# Altium footprint library STANDARD_PARTS.PcbLib: 51 footprints (part 2 of 4)
Each footprint in its own frame and in the unit in brackets; x right, y up, seen from the top. Pads: shape width x height; smd on the part's side, far side on the other; paste and mask are expansions set on the pad; w line width, h text height; cw(c..) or ccw(c..) is an arc to the next point about the centre after c.
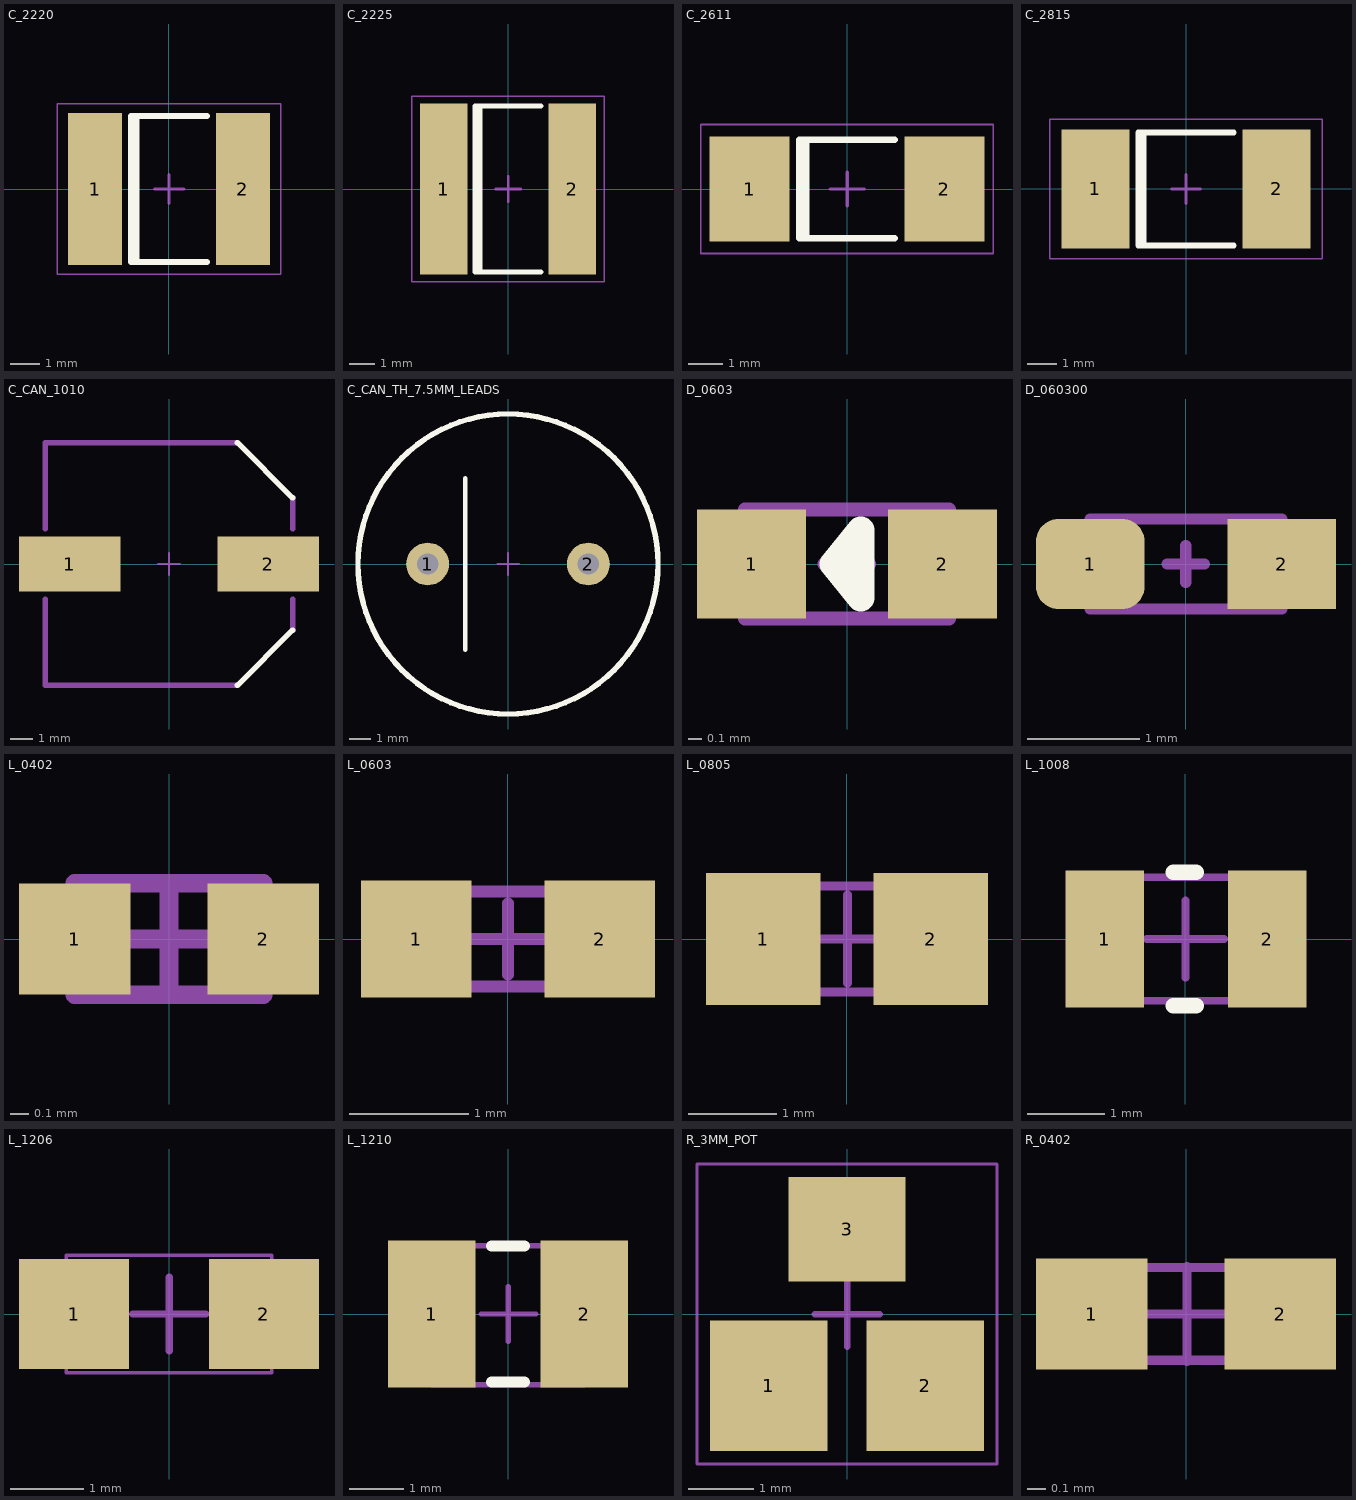
[diagram p1: the footprints below, top view; thin cyan lines are the x and y axes]

## C_2220 [mm] "Chip Capacitor; Body 5.7 x 5.0 mm (LxW typ)"
height 1.8
pads (2):
  rect 1.85x5.2 smd: 1(-2.525,0) 2(2.525,0)
Top Overlay:
  lines w0.2: -1.11,-2.5 -1.11,2.5 ; 1.3,-2.5 -1.3,-2.5 -1.3,2.5 1.3,2.5
Mechanical 3:
  text ".Designator" at -3.81,3.302 h0.5
Mechanical 15:
  lines w0.05: -3.81,-2.921 3.81,-2.921 3.81,2.921 -3.81,2.921 -3.81,-2.921
  lines w0.1: -0.495,0 0.505,0 ; 0.005,-0.5 0.005,0.5
3D body: height 1, standoff 0, extent 1.905,-2.413 3.175,2.413
3D body: height 1, standoff 0, extent -1.905,-2.413 1.905,2.413
3D body: height 1, standoff 0, extent -3.175,-2.413 -1.905,2.413

## C_2225 [mm] "Chip Capacitor; Body 5.6 x 6.4 mm (LxW typ)"
height 2
pads (2):
  rect 1.9x6.8 smd: 1(-2.55,0) 2(2.55,0)
Top Overlay:
  lines w0.2: -1.11,-3.3 -1.11,3.3 ; 1.3,-3.3 -1.3,-3.3 -1.3,3.3 1.3,3.3
Mechanical 3:
  text ".Designator" at -3.81,4.064 h0.5
Mechanical 15:
  lines w0.05: -3.81,-3.683 3.81,-3.683 3.81,3.683 -3.81,3.683 -3.81,-3.683
  lines w0.1: -0.495,0 0.505,0 ; 0.005,-0.5 0.005,0.5
3D body: height 1, standoff 0, extent 1.905,-3.048 3.175,3.048
3D body: height 1, standoff 0, extent -1.905,-3.048 1.905,3.048
3D body: height 1, standoff 0, extent -3.175,-3.048 -1.905,3.048

## C_2611 [mm] "Chip Capacitor; Body 6.73 x 2.79 mm (LxW typ)"
height 3.18
pads (2):
  rect 2.35x3.1 smd: 1(-2.875,0) 2(2.875,0)
Top Overlay:
  lines w0.2: -1.21,-1.45 -1.21,1.45 ; 1.4,-1.45 -1.4,-1.45 -1.4,1.45 1.4,1.45
Mechanical 3:
  text ".Designator" at -4.318,2.286 h0.5
Mechanical 15:
  lines w0.05: -4.318,-1.905 -4.318,1.905 4.318,1.905 4.318,-1.905 -4.318,-1.905
  lines w0.1: -0.495,0 0.505,0 ; 0.005,-0.5 0.005,0.5
3D body: height 1, standoff 0, extent -3.556,-1.397 -1.905,1.397
3D body: height 1, standoff 0, extent -1.905,-1.397 1.905,1.397
3D body: height 1, standoff 0, extent 1.905,-1.397 3.556,1.397

## C_2815 [mm] "Chip Capacitor; Body 7.24 x 3.81 mm (LxW typ)"
height 3.18
pads (2):
  rect 2.35x4.1 smd: 1(-3.125,0) 2(3.125,0)
Top Overlay:
  lines w0.2: -1.46,-1.95 -1.46,1.95 ; 1.65,-1.95 -1.65,-1.95 -1.65,1.95 1.65,1.95
Mechanical 3:
  text ".Designator" at -4.699,2.794 h0.5
Mechanical 15:
  lines w0.05: -4.699,-2.413 -4.699,2.413 4.699,2.413 4.699,-2.413 -4.699,-2.413
  lines w0.1: -0.495,0 0.505,0 ; 0.005,-0.5 0.005,0.5
3D body: height 1, standoff 0, extent -4,-1.778 -2.286,1.778
3D body: height 1, standoff 0, extent -2.286,-1.778 2.286,1.778
3D body: height 1, standoff 0, extent 2.286,-1.778 3.951,1.778

## C_CAN_1010 [mm] "SMD-ECAP-10x10"
height 12
pads (2):
  rect 4.6x2.5 smd: 1(-4.5,0) 2(4.5,0)
Top Overlay:
  lines w0.25: 3.1,-5.5 5.6,-3 ; 3.1,5.5 5.6,3
Mechanical 3:
  lines w0.25: -5.6,-1.6 -5.6,-5.5 3.1,-5.5 ; -5.6,1.6 -5.6,5.5 3.1,5.5 ; 5.6,-3 5.6,-1.6 ; 5.6,1.6 5.6,3
  text ".Designator" at -4.599,2.794 h0.5
Mechanical 15:
  lines w0.1: -0.495,0 0.505,0 ; 0.005,-0.5 0.005,0.5
3D body "User Library-cap_10x10x10-1.STEP": height 10.3, standoff -0.2, extent -5.899,-5.25 5.901,5.25

## C_CAN_TH_7.5MM_LEADS [mm]
height 12
pads (2):
  round 2 hole 1: 1(-3.75,0) 2(3.75,0)
Top Overlay:
  circle w0.254: c0,0 r7
  lines w0.2: -2,-4 -2,4
Mechanical 3:
  text ".Designator" at -4.599,2.794 h0.5
Mechanical 15:
  lines w0.1: -0.495,0 0.505,0 ; 0.005,-0.5 0.005,0.5
3D body "ELCO-D16P7.5H25LD0.8.stp": height 25.02, standoff -3.6, extent -8,-8 8,8

## D_0603 [mm] "Chip Diode; Body 1.6 x 0.8 mm (LxW typ)"
height 0.85
pads (2):
  rect 0.8x0.8 smd: 1(-0.7,0) 2(0.7,0)
Top Overlay:
  lines w0.2: -0.1,0 0.1,0.25 0.1,-0.25 -0.1,0
Mechanical 3:
  text ".Designator" at -1.05,0.6 h0.5
Mechanical 15:
  lines w0.1: -0.167,0 0.163,0 ; -0.002,-0.165 -0.002,0.165 ; -0.75,-0.4 0.75,-0.4 0.75,0.4 -0.75,0.4 -0.75,-0.4
3D body "0603 LED v7.step": height 0.35, standoff 0, extent -0.8,-0.4 0.8,0.4

## D_060300 [mm] "Chip Diode; Body 1.6 x 0.8 mm (LxW typ)"
height 0.85
pads (2):
  rrect50% 0.965x0.8 smd: 1(-0.85,0)
  rect 0.965x0.8 smd: 2(0.85,0)
Mechanical 3:
  text ".Designator" at -1.5,0.65 h0.5
Mechanical 15:
  lines w0.1: -0.167,0 0.163,0 ; -0.002,-0.165 -0.002,0.165 ; -0.85,-0.4 0.85,-0.4 0.85,0.4 -0.85,0.4 -0.85,-0.4
3D body: height 0.3, standoff 0, extent -1.016,-0.381 -0.635,0.381
3D body: height 0.3, standoff 0, extent -0.635,-0.381 0.762,0.381
3D body: height 0.3, standoff 0, extent 0.635,-0.381 1.016,0.381

## L_0402 [mm] "Chip Inductor, Body 1.1 x 0.5 mm (LxW typ)"
height 0.4
pads (2):
  rect 0.6x0.6 smd: 1(-0.508,0) 2(0.508,0)
Mechanical 3:
  text ".designator" at -0.7,0.5 h0.5
Mechanical 15:
  lines w0.1: -0.381,0 0.381,0 ; 0,-0.3 0,0.3 ; -0.508,-0.3 0.508,-0.3 0.508,0.3 -0.508,0.3 -0.508,-0.3
3D body "L_0402.stp": height 0.5, standoff 0, extent -0.5,-0.275 0.5,0.275

## L_0603 [mm]
pads (2):
  rect 0.93x0.98 smd: 1(-0.77,0) 2(0.77,0)
Mechanical 3:
  text ".designator" at -1.2,0.7 h0.5
Mechanical 15:
  lines w0.1: -0.381,0 0.381,0 ; 0,-0.3 0,0.3 ; -0.77,-0.4 -0.77,0.4 0.77,0.4 0.77,-0.4 -0.77,-0.4
3D body "L0603.STEP": height 0.46, standoff -0.01, extent -0.825,-0.412 0.825,0.413

## L_0805 [mm] "Chip Inductor Body 2.0 x 1.2 mm (LxW typ)"
height 1.1
pads (2):
  rect 1.3x1.5 smd: 1(-0.95,0) 2(0.95,0)
Mechanical 3:
  text ".Designator" at -1.1,0.9 h0.5
Mechanical 15:
  lines w0.1: -0.495,0 0.505,0 ; 0.005,-0.5 0.005,0.5 ; -1,-0.6 1,-0.6 1,0.6 -1,0.6 -1,-0.6
3D body "CAP0805.stp": height 0.78, standoff 0, extent -1.05,-0.625 0.95,0.625

## L_1008 [mil]
pads (2):
  rect 40x70 smd: 1(-41,0) 2(42,0)
Top Overlay:
  lines w7.87: -6,-34 5.81,-34 ; -6,34 5.81,34
Mechanical 3:
  text ".Designator" at -59.06,43.31 h19.68
Mechanical 15:
  lines w3.94: -19.48,-0.01 19.89,-0.01 ; 0.21,-19.69 0.21,19.68 ; -41,-31.5 -41,31.5 43.31,31.5 43.31,-31.5 -41,-31.5
3D body "L_1008.stp": height 55.91, standoff 0, extent -40.93,-30.12 41.35,30.12

## L_1206 [mm] "Chip Inductor, Body 3.2 x 1.6 mm (LxW typ)"
height 1.35
pads (2):
  rect 1.5x1.5 smd: 1(-1.295,0) 2(1.295,0)
Mechanical 3:
  text ".Designator" at -2.54,1.524 h0.5
Mechanical 15:
  lines w0.05: -1.4,-0.8 1.4,-0.8 1.4,0.8 -1.4,0.8 -1.4,-0.8
  lines w0.1: -0.495,0 0.505,0 ; 0.005,-0.5 0.005,0.5
3D body "CAP1206.stp": height 1, standoff 0, extent -1.6,-0.8 1.6,0.8

## L_1210 [mm] "Chip Inductor Body 3.2 x 2.5 mm (LxW typ)"
height 1.35
pads (2):
  rect 1.6x2.7 smd: 1(-1.4,0) 2(1.4,0)
Top Overlay:
  lines w0.2: -0.3,-1.25 0.3,-1.25 ; -0.3,1.25 0.3,1.25
Mechanical 3:
  text ".Designator" at -2.2,1.6 h0.5
Mechanical 15:
  lines w0.1: -0.495,0 0.505,0 ; 0.005,-0.5 0.005,0.5 ; -1.4,-1.3 1.4,-1.3 1.4,1.251 -1.4,1.251 -1.4,-1.3
3D body "CAP1210.stp": height 0.92, standoff -0.02, extent -1.6,-1.25 1.6,1.25

## R_3MM_POT [mm] "Body 3.2 x 1.6 mm (LxW typ)"
height 1.35
pads (3):
  rect 1.8x2 smd: 1(-1.2,-1.1) 2(1.2,-1.1)
  rect 1.8x1.6 smd: 3(0,1.3)
Mechanical 3:
  text ".Designator" at -2.54,0.551 h0.5
Mechanical 15:
  lines w0.05: -2.3,-2.3 2.3,-2.3 2.3,2.3 -2.3,2.3 -2.3,-2.3
  lines w0.1: -0.495,0 0.505,0 ; 0.005,-0.5 0.005,0.5
3D body: height 1, standoff 0, extent 1.27,-1.862 1.905,-0.338
3D body "EVM-3E.STEP": height 1.62, standoff 0, extent -1.55,-1.95 1.55,1.85
3D body: height 1, standoff 0, extent -1.905,-1.862 -1.27,-0.338

## R_0402 [mm] "Body 1.0 x 0.5 mm (LxW typ)"
height 0.6
pads (2):
  rect 0.6x0.6 smd: 1(-0.508,0) 2(0.508,0)
Mechanical 3:
  text ".Designator" at -0.8,0.5 h0.5
Mechanical 15:
  lines w0.05: -0.254,0 0.254,0 ; 0.005,-0.254 0.005,0.254 ; -0.5,-0.25 0.5,-0.25 0.5,0.25 -0.5,0.25 -0.5,-0.25
3D body "RES0402.stp": height 0.35, standoff 0, extent -0.5,-0.25 0.5,0.25